# Altium schematic symbol library 5010.SchLib: 1 symbol
Pins are listed as number, name and electrical type; pins without a type are passive.

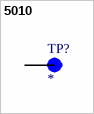
[diagram p0: symbol 5010]

## 5010
designator TP?
Test Point MultiPurpose THM .445 L .125 OD Heat Resistant Nylon 46 Red | Keystone Electronics 5010; MP: 5010; SnapEDA_Link: https://www.snapeda.com/parts/5010/Keystone/view-part/?ref=snap; Package: NON STANDARD-1 Keystone; Value: *; MF: Keystone Electronics; Check_prices: https://www.snapeda.com/parts/5010/Keystone/view-part/?ref=eda
footprint TP_5010
pins: TP